# EAGLE library part PMCK3 (library Juan_pedometer)
MIKROE-3259, Pedometer Click 3,
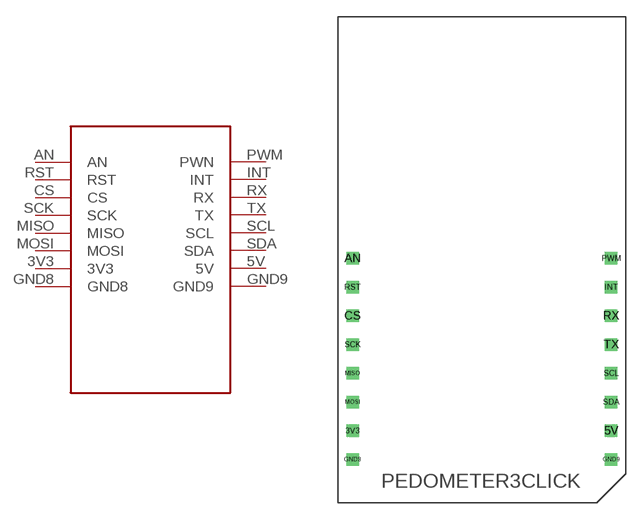
[diagram p4: symbol with the pads of PMCK3; footprint PMCK3]

Designator prefix B

## PMCK3  [PMCK3]
3V3  3V3
5V  5V
AN  AN
CS  CS
GND8  GND8
GND9  GND9
INT  INT
MISO  MISO
MOSI  MOSI
PWM  PWN
RST  RST
RX  RX
SCK  SCK
SCL  SCL
SDA  SDA
TX  TX

## Footprint PMCK3 (pad centres in mm)
drill 0.6 square: 3V3 1.27,6.35; 5V 24.13,6.35; AN 1.27,21.59; CS 1.27,16.51; GND8 1.27,3.81; GND9 24.13,3.81; INT 24.13,19.05; MISO 1.27,11.43; MOSI 1.27,8.89; PWM 24.13,21.59; RST 1.27,19.05; RX 24.13,16.51; SCK 1.27,13.97; SCL 24.13,11.43; SDA 24.13,8.89; TX 24.13,13.97